# EAGLE library part TPA3110D2-Q1 (library Audio-Power-amlifier V.2.0)
15-W Filter-Free Stereo Class-D Audio Power Amplifier with SpeakerGuard
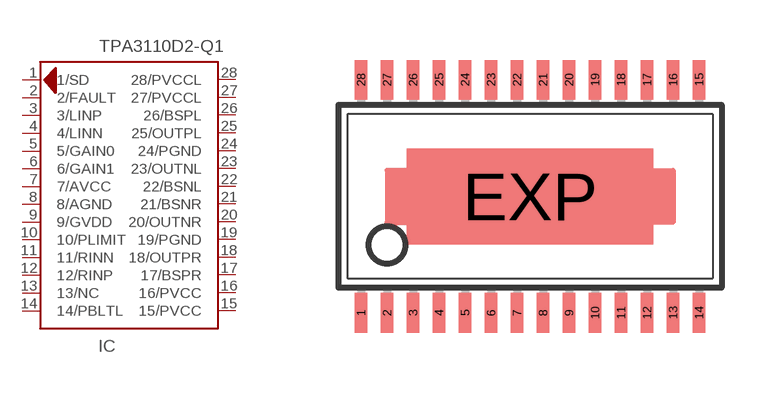
[diagram p184: symbol with the pads of TSSOP28-PWP; footprint TSSOP28-PWP]

Designator prefix IC

## TPA3110D2-Q1  [TSSOP28-PWP]
1  1/SD  out
2  2/FAULT  out
3  3/LINP  in
4  4/LINN  in
5  5/GAIN0
6  6/GAIN1
7  7/AVCC  pwr
8  8/AGND  pwr
9  9/GVDD  out
10  10/PLIMIT  in
11  11/RINN  in
12  12/RINP  in
13  13/NC  nc
14  14/PBLTL  in
15  15/PVCC  pwr
16  16/PVCC  pwr
17  17/BSPR  in
18  18/OUTPR  out
19  19/PGND  pwr
20  20/OUTNR  out
21  21/BSNR  in
22  22/BSNL  in
23  23/OUTNL  out
24  24/PGND  pwr
25  25/OUTPL  out
26  26/BSPL  in
27  27/PVCCL  pwr
28  28/PVCCL  pwr

## Footprint TSSOP28-PWP (pad centres in mm)
Power Thin Shrink Small Outline Plastic 28
smd 0.305 x 0.991: 1 -4.225,-2.918; 2 -3.575,-2.918; 3 -2.925,-2.918; 4 -2.275,-2.918; 5 -1.625,-2.918; 6 -0.975,-2.918; 7 -0.325,-2.918; 8 0.325,-2.918; 9 0.975,-2.918; 10 1.625,-2.918; 11 2.275,-2.918; 12 2.925,-2.918; 13 3.575,-2.918; 14 4.225,-2.918; 15 4.225,2.918; 16 3.575,2.918; 17 2.925,2.918; 18 2.275,2.918; 19 1.625,2.918; 20 0.975,2.918; 21 0.325,2.918; 22 -0.325,2.918; 23 -0.975,2.918; 24 -1.625,2.918; 25 -2.275,2.918; 26 -2.925,2.918; 27 -3.575,2.918; 28 -4.225,2.918
smd 6.17 x 2.4: EXP 0,0